# Altium footprint library BAT_1066.PcbLib: 1 footprints
Each footprint in its own frame and in the unit in brackets; x right, y up, seen from the top. Pads: shape width x height; smd on the part's side, far side on the other; paste and mask are expansions set on the pad; w line width, h text height; cw(c..) or ccw(c..) is an arc to the next point about the centre after c.
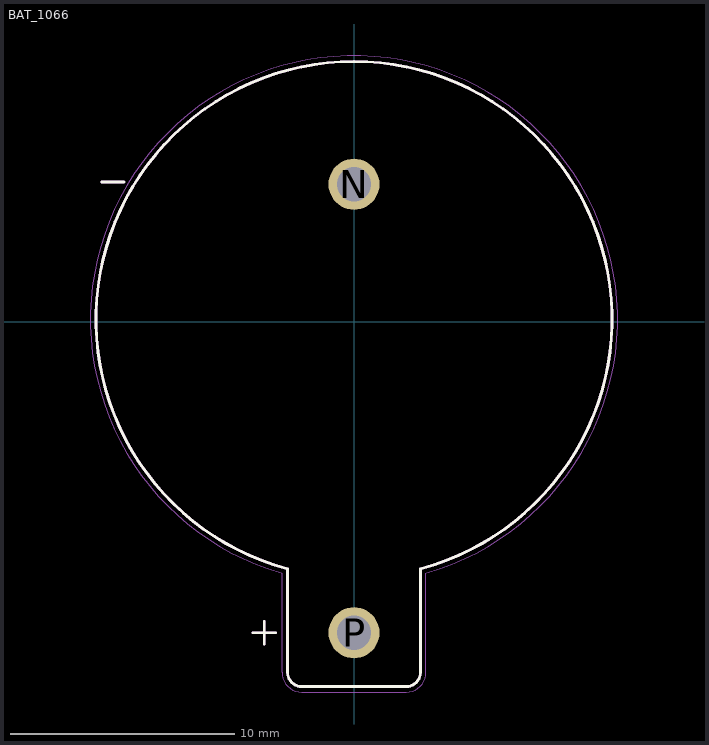
[diagram p0: the footprint, top view; thin cyan lines are the x and y axes]

## BAT_1066 [mm]
height 9.8
pads (2):
  round 2.28 hole 1.52: N(0,6.13) P(0,-13.87)
Top Overlay:
  lines w0.127: -11.25,6.23 -10.25,6.23 ; -4.5,-13.87 -3.5,-13.87 ; -4,-14.37 -4,-13.37 ; -2.978,-11.013 cw(c0,0.1) 2.978,-11.013 ; -2.96,-11.018 -2.96,-15.635 ccw(c-2.325,-15.635) -2.325,-16.27 2.325,-16.27 ccw(c2.325,-15.635) 2.96,-15.635 2.96,-11.018
Mechanical 13:
  lines w0.127: -11.25,6.23 -10.25,6.23 ; -4.5,-13.87 -3.5,-13.87 ; -4,-14.37 -4,-13.37 ; -2.978,-11.013 cw(c0,0.1) 2.978,-11.013 ; -2.96,-11.018 -2.96,-15.635 ccw(c-2.325,-15.635) -2.325,-16.27 2.325,-16.27 ccw(c2.325,-15.635) 2.96,-15.635 2.96,-11.018
Mechanical 15:
  lines w0.05: -3.24,-11.2 cw(c0,0.1) 3.24,-11.2 ; -3.21,-11.208 -3.21,-15.635 ccw(c-2.325,-15.635) -2.325,-16.52 2.325,-16.52 ccw(c2.325,-15.635) 3.21,-15.635 3.21,-11.208
3D body "1066--3DModel-STEP-630548.STEP": height 7.75, standoff -5.17, extent -11.447,-16.129 11.557,11.811